# EAGLE library part P-SS22F12 (library DH_servis)
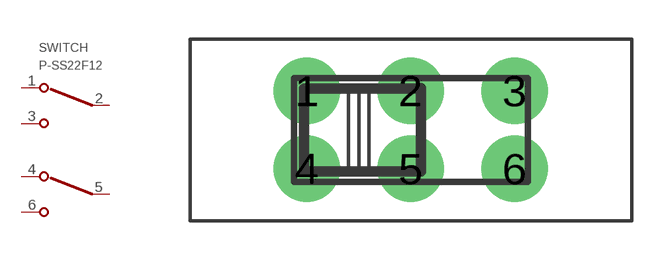
[diagram p0: symbol with the pads of P-SS22F12; footprint P-SS22F12]

Designator prefix SWITCH

## P-SS22F12*  [P-SS22F12]
1  1
2  2
3  3
4  4
5  5
6  6

## Footprint P-SS22F12 (pad centres in mm)
drill 0.813 pad 2.54 round: 1 4.5,5; 2 8.5,5; 3 12.5,5; 4 4.5,2; 5 8.5,2; 6 12.5,2